# Altium footprint library PcbLib1.PcbLib: 21 footprints (part 1 of 2)
Each footprint in its own frame and in the unit in brackets; x right, y up, seen from the top. Pads: shape width x height; smd on the part's side, far side on the other; paste and mask are expansions set on the pad; w line width, h text height; cw(c..) or ccw(c..) is an arc to the next point about the centre after c.
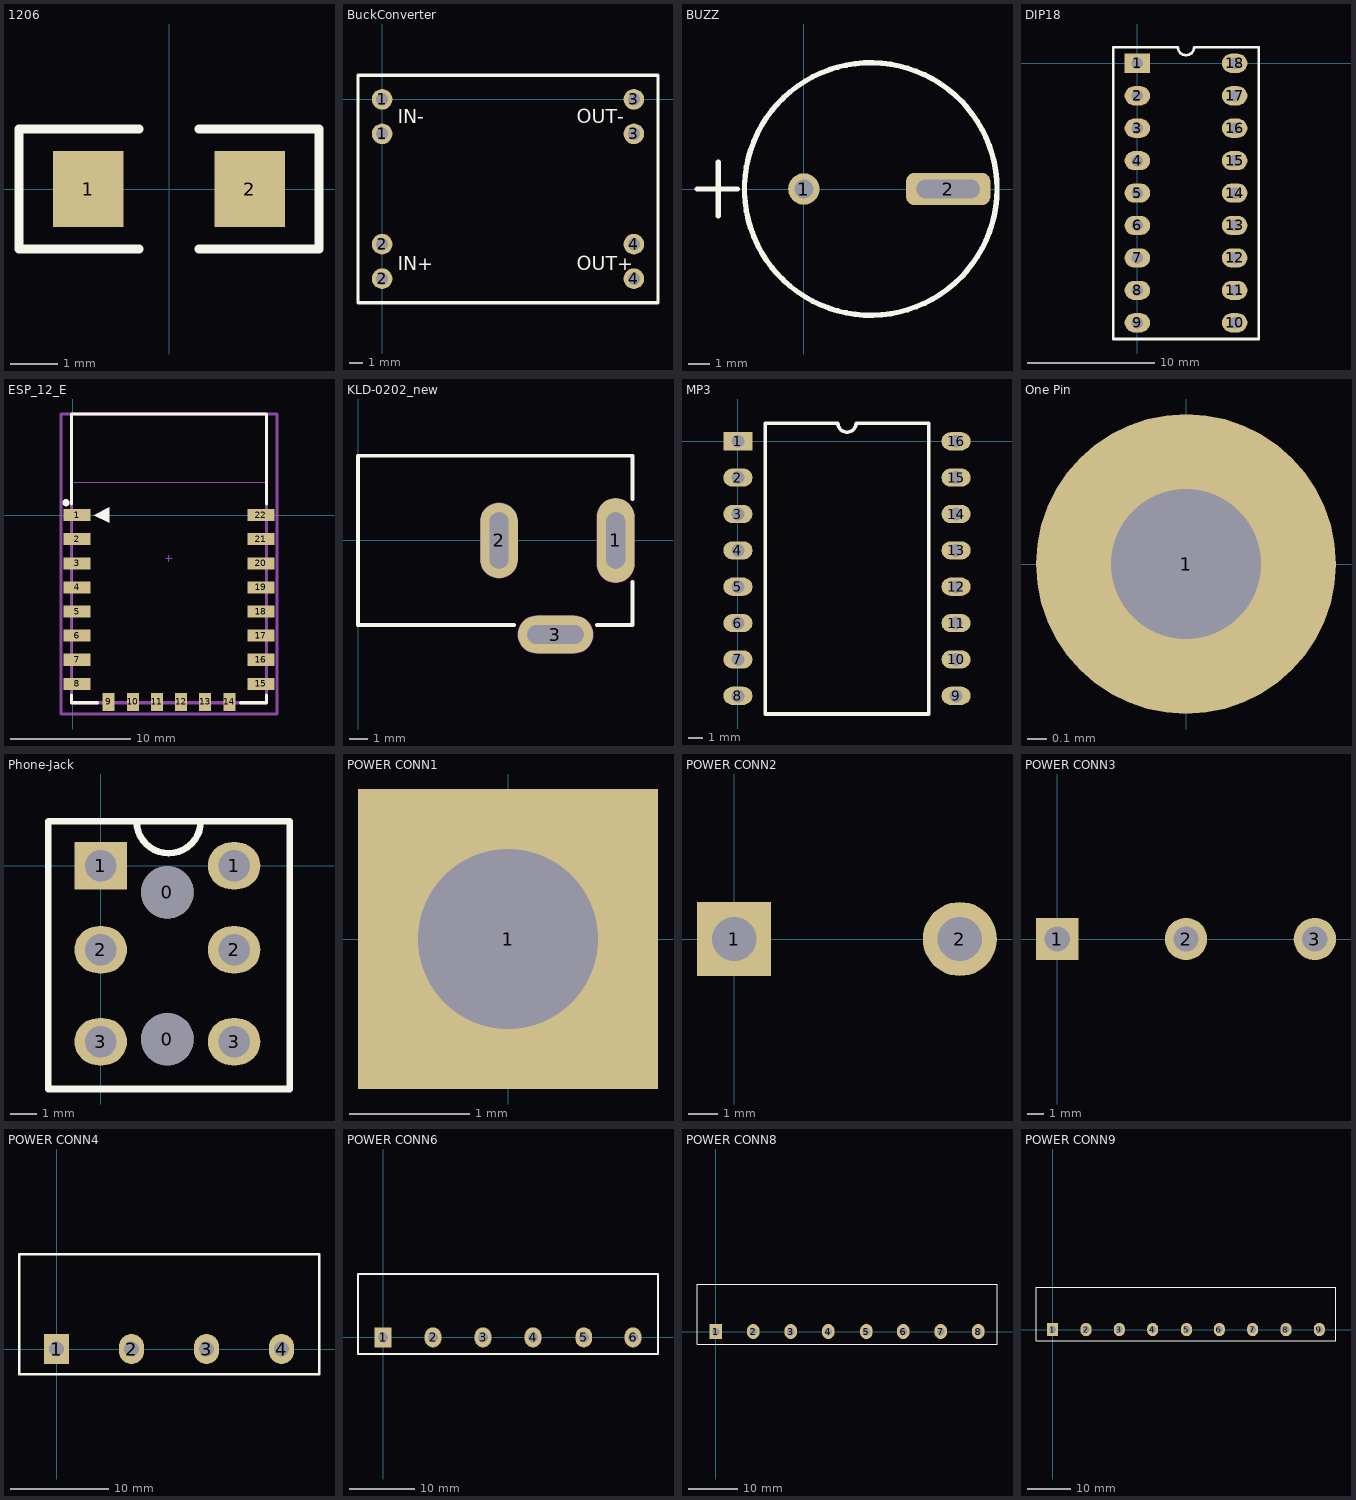
[diagram p0: the footprints below, top view; thin cyan lines are the x and y axes]

## 1206 [mm]
pads (2):
  rect 1.5x1.6 smd: 1(-1.71,0) 2(1.71,0)
Top Overlay:
  lines w0.2: -0.635,-1.27 -3.175,-1.27 -3.175,1.27 -0.635,1.27 ; 0.635,-1.27 3.175,-1.27 3.175,1.27 0.635,1.27

## BuckConverter [mil]
height 157.48
pads (8):
  round 60 hole 35.43: 1(0,-100) 1(0,0) 2(0,-520) 2(0,-420) 3(730,-100) 3(730,0) 4(730,-520) 4(730,-420)
Top Overlay:
  lines w10: -70,-590 -70,70 800,70 800,-590 -70,-590
  text "IN+" at 45,-495 h40
  text "IN-" at 45,-70 h40
  text "OUT-" at 565,-70 h40
  text "OUT+" at 565,-495 h40

## BUZZ [mm] "6~8mm"
pads (2):
  round 1.5 hole 0.9: 1(0,0)
  rrect50% 4x1.524 hole 0.9 slot 3 at 0 deg: 2(6.858,0)
Top Overlay:
  circle w0.254: c3.175,0 r6
  lines w0.254: -5.08,0 -3.175,0 ; -4.064,-1.27 -4.064,1.27

## DIP18 [mm]
pads (18):
  rect 2x1.5 hole 0.9: 1(0,0)
  oval 2x1.5 hole 0.9: 2(0,-2.54) 3(0,-5.08) 4(0,-7.62) 5(0,-10.16) 6(0,-12.7) 7(0,-15.24) 8(0,-17.78) 9(0,-20.32) 10(7.62,-20.32) 11(7.62,-17.78) 12(7.62,-15.24) 13(7.62,-12.7) 14(7.62,-10.16) 15(7.62,-7.62) 16(7.62,-5.08) 17(7.62,-2.54) 18(7.62,0)
Top Overlay:
  lines w0.2: -1.905,-21.59 9.525,-21.59 9.525,1.27 4.445,1.27 cw(c3.81,1.27) 3.175,1.27 -1.905,1.27 -1.905,-21.59

## ESP_12_E [mm] "ESP-12 Wi-Fi Module by AI-Thinker"
height 3.2
pads (22):
  rect 2.25x1 smd: 1(0.375,0) 2(0.375,-2) 3(0.375,-4) 4(0.375,-6) 5(0.375,-8) 6(0.375,-10) 7(0.375,-12) 8(0.375,-14) 15(15.625,-14) 16(15.625,-12) 17(15.625,-10) 18(15.625,-8) 19(15.625,-6) 20(15.625,-4) 21(15.625,-2) 22(15.625,0)
  rect 1x1.5 smd: 9(3,-15.5) 10(5,-15.5) 11(7,-15.5) 12(9,-15.5) 13(11,-15.5) 14(13,-15.5)
Top Overlay:
  circle w0.3: c-0.55,1.025 r0.15
  region: 1.77,0 3.04,-0.635 3.04,0.635
  lines w0.254: -0.084,-14.916 -0.084,-15.568 2.068,-15.568 ; -0.084,0.916 -0.084,8.371 16.084,8.371 16.084,0.916 ; 13.932,-15.568 16.084,-15.568 16.084,-14.916
Mechanical 13:
  lines w0.051: -0.127,2.727 -0.127,8.382 16.129,8.382 16.129,2.727 -0.127,2.727
  lines w0.254: -0.084,-15.568 16.084,-15.568 16.084,8.371 -0.084,8.371 -0.084,-15.568
  text "CUTOUT POLYGON" at 0.127,7.366 h0.25
  text "ANTENNA AREA" at 0.127,7.874 h0.25
Mechanical 15:
  lines w0.1: 7.746,-3.598 8.254,-3.598 ; 8,-3.852 8,-3.344
  lines w0.254: -0.975,-16.5 -0.975,8.371 16.975,8.371 16.975,-16.5 -0.975,-16.5
3D body: height 2.75, standoff 0.04, extent 0.001,-15.491 16.001,8.509

## KLD-0202_new [mm] "DC Power Jack, 2.5mm, KLD Series, PCB Mount"
pads (3):
  oval 2x4.5 hole 1 slot 3 at 90 deg: 1(13.7,0)
  oval 2x4 hole 1 slot 3 at 90 deg: 2(7.5,0)
  oval 4x2 hole 1 slot 3 at 0 deg: 3(10.5,-5)
Top Overlay:
  lines w0.2: 8.3,-4.5 0,-4.5 0,4.5 14.6,4.5 14.6,2.2 ; 12.7,-4.5 14.6,-4.5 14.6,-2.2
Mechanical 1:
  lines w1: 7.5,-1 7.5,1 ; 9.5,-5 11.5,-5 ; 13.7,-1.25 13.7,1.25
Mechanical 2:
  lines w2.016: 7.5,-1 7.5,1 ; 9.5,-5 11.5,-5 ; 13.7,-1.25 13.7,1.25

## MP3 [mil]
pads (16):
  rect 80x50 hole 35.43: 1(0,0)
  oval 80x50 hole 35.43: 2(0,-100) 3(0,-200) 4(0,-300) 5(0,-400) 6(0,-500) 7(0,-600) 8(0,-700) 9(600,-700) 10(600,-600) 11(600,-500) 12(600,-400) 13(600,-300) 14(600,-200) 15(600,-100) 16(600,0)
Top Overlay:
  lines w10: 75,-750 525,-750 525,50 325,50 cw(c300,50) 275,50 75,50 75,-750

## One Pin [mil] "D0.9mm"
pads (1):
  round 60 hole 30: 1(0,0)

## Phone-Jack [mm]
pads (8):
  round 2 hole 2: 0(2.54,-6.604) 0(2.54,-1.016)
  rect 2x1.8 hole 1.2: 1(0,0)
  oval 2x1.8 hole 1.2: 1(5.08,0) 2(0,-3.2) 2(5.08,-3.2) 3(0,-6.7) 3(5.08,-6.7)
Top Overlay:
  lines w0.254: 1.364,1.7 ccw(c2.587,1.7) 3.81,1.7 ; -2,-8.5 -2,1.7 7.2,1.7 7.2,-8.5 -2,-8.5

## POWER CONN1 [mm]
pads (1):
  rect 2.5x2.5 hole 1.5: 1(0,0)

## POWER CONN2 [mm]
pads (2):
  rect 2.5x2.5 hole 1.5: 1(0,0)
  round 2.5 hole 1.5: 2(7.62,0)

## POWER CONN3 [mm]
pads (3):
  rect 2.5x2.5 hole 1.5: 1(0,0)
  round 2.5 hole 1.5: 2(7.62,0) 3(15.24,0)

## POWER CONN4 [mil]
height 500
pads (4):
  rect 100x120 hole 60: 1(0,0)
  oval 100x120 hole 60: 2(300,0) 3(600,0) 4(900,0)
Top Overlay:
  lines w10: -150,-100 1050,-100 1050,380 -150,380 -150,-100

## POWER CONN6 [mil]
height 500
pads (6):
  rect 100x120 hole 60: 1(0,0)
  oval 100x120 hole 60: 2(300,0) 3(600,0) 4(900,0) 5(1205,0) 6(1500,0)
Top Overlay:
  lines w10: -150,-100 1650,-100 1650,380 -150,380 -150,-100

## POWER CONN8 [mil]
height 500
pads (8):
  rect 100x120 hole 60: 1(0,0)
  oval 100x120 hole 60: 2(300,0) 3(600,0) 4(900,0) 5(1205,0) 6(1500,0) 7(1800,0) 8(2100,0)
Top Overlay:
  lines w10: -150,-100 -150,380 2250,380 2250,-100 -150,-100

## POWER CONN9 [mil]
height 500
pads (9):
  rect 100x120 hole 60: 1(0,0)
  oval 100x120 hole 60: 2(300,0) 3(600,0) 4(900,0) 5(1205,0) 6(1500,0) 7(1800,0) 8(2100,0) 9(2400,0)
Top Overlay:
  lines w10: -150,-100 2550,-100 2550,380 -150,380 -150,-100